# Altium footprint library XTAL1140X480X430D1320L440X63N.PcbLib: 1 footprints
Each footprint in its own frame and in the unit in brackets; x right, y up, seen from the top. Pads: shape width x height; smd on the part's side, far side on the other; paste and mask are expansions set on the pad; w line width, h text height; cw(c..) or ccw(c..) is an arc to the next point about the centre after c.
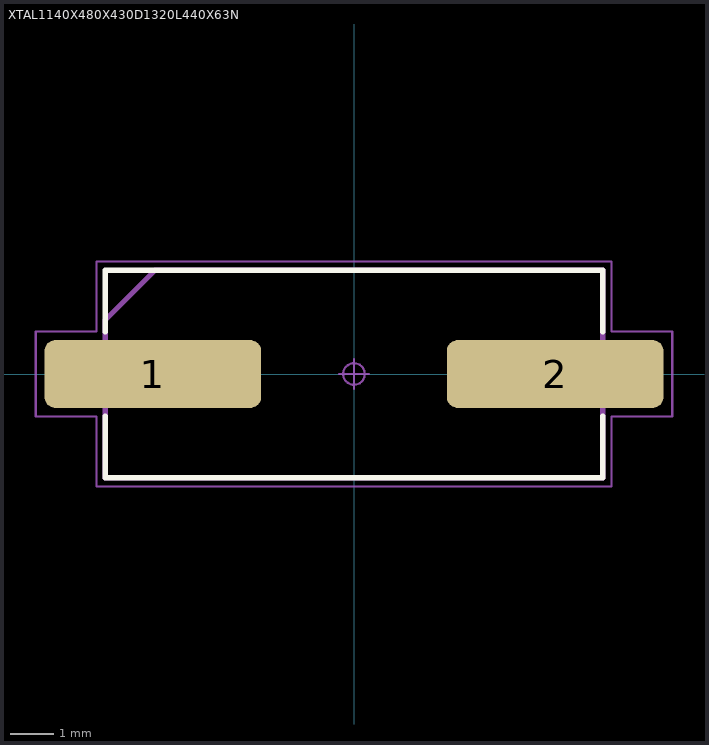
[diagram p0: the footprint, top view; thin cyan lines are the x and y axes]

## XTAL1140X480X430D1320L440X63N [mm] "Crystal; 11.40 mm L X 4.80 mm W X 4.30 mm H body"
height 4.3
pads (2):
  rrect32% 5.01x1.57 smd: 1(-4.65,0) 2(4.65,0)
Top Overlay:
  lines w0.12: -5.75,-0.97 -5.75,-2.4 5.75,-2.4 5.75,-0.97 ; -5.75,0.97 -5.75,2.4 5.75,2.4 5.75,0.97
Mechanical 3:
  lines w0.12: -5.75,-2.4 -5.75,1.25 -4.6,2.4 5.75,2.4 5.75,-2.4 -5.75,-2.4
Mechanical 5:
  lines w0.025: -6.6,-0.315 -6.6,0.315 -2.2,0.315 -2.2,-0.315 -6.6,-0.315 ; -5.7,-2.4 5.7,-2.4 5.7,2.4 -5.7,2.4 -5.7,-2.4 ; 2.2,-0.315 6.6,-0.315 6.6,0.315 2.2,0.315 2.2,-0.315
Mechanical 7:
  circle w0.05: c0,0 r0.25
  lines w0.05: -0.35,0 0.35,0 ; 0,-0.35 0,0.35 ; -7.355,-0.985 -5.95,-0.985 -5.95,-2.6 5.95,-2.6 5.95,-0.985 7.355,-0.985 7.355,0.985 5.95,0.985 5.95,2.6 -5.95,2.6 -5.95,0.985 -7.355,0.985 -7.355,-0.985
Mechanical 9:
  text "'.Designator'" at -6.58,-1.254 h1
3D body "XTAL1140X480X430D1320L440X63.STEP": height 4.3, standoff 0, extent -6.6,-2.4 6.6,2.4
3D body: height 1.04, standoff 0, extent -7.355,-2.6 7.355,2.6